# Altium schematic symbol library MCP1792T-3302H_DB.SchLib: 1 symbol
Pins are listed as number, name and electrical type; pins without a type are passive.

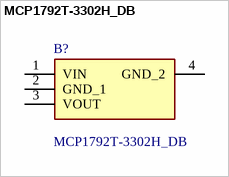
[diagram p0: symbol MCP1792T-3302H_DB]

## MCP1792T-3302H_DB
designator B?
LDO Voltage Regulators High input voltage regulator 3.3V 3Ld SOT-223 TR; Manufacturer_Name: Microchip; Manufacturer_Part_Number: MCP1792T-3302H/DB; Geometry.Height: 1.8mm; Mouser Part Number: 579-MCP1792T-3302HDB; Mouser Price/Stock: https://www.mouser.co.uk/ProductDetail/Microchip-Technology/MCP1792T-3302H-DB?qs=mAH9sUMRCtvBzBqedLa7iA%3D%3D; Datasheet Link: https://www.mouser.de/datasheet/2/268/MCP1792-Family-Data-Sheet-DS20006229C-1840172.pdf
footprint SOT230P700X180-4N
pins: 1 VIN, 2 GND_1, 3 VOUT, 4 GND_2